# Altium schematic symbol library XTAL-4T.SchLib: 1 symbol
Pins are listed as number, name and electrical type; pins without a type are passive.

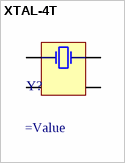
[diagram p0: symbol XTAL-4T]

## XTAL-4T
designator Y?
Drawn By: Juan I Carrano
pins: 1, 2, 3, 4